# Altium footprint library PcbLib1.PcbLib: 22 footprints (part 1 of 2)
Each footprint in its own frame and in the unit in brackets; x right, y up, seen from the top. Pads: shape width x height; smd on the part's side, far side on the other; paste and mask are expansions set on the pad; w line width, h text height; cw(c..) or ccw(c..) is an arc to the next point about the centre after c.
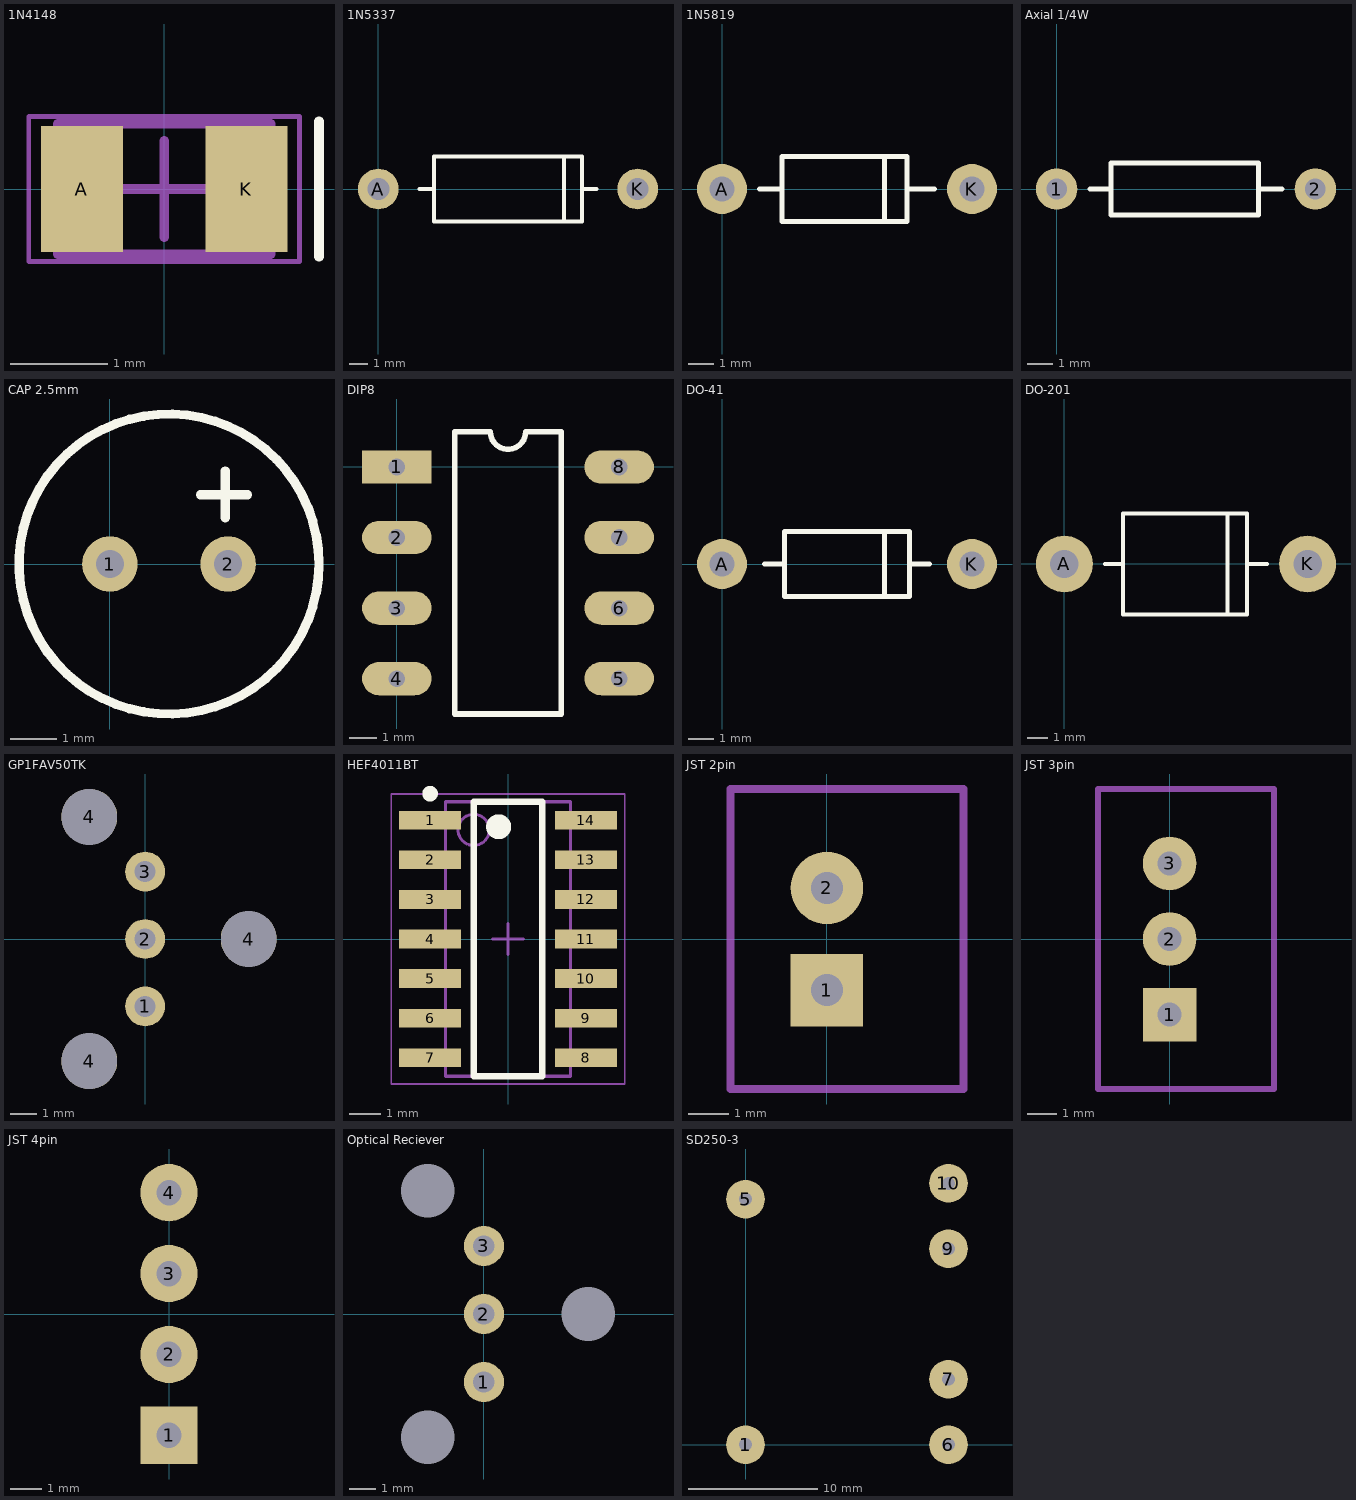
[diagram p0: the footprints below, top view; thin cyan lines are the x and y axes]

## 1N4148 [mm]
pads (2):
  rect 0.85x1.3 smd: A(-0.85,0) K(0.85,0)
Top Overlay:
  lines w0.1: 1.6,-0.7 1.6,0.7
Mechanical 13:
  lines w0.1: -1.1,-0.675 -1.1,0.675 1.1,0.675 1.1,-0.675 -1.1,-0.675
Mechanical 15:
  lines w0.05: -1.4,-0.75 -1.4,0.75 1.4,0.75 1.4,-0.75 -1.4,-0.75
  lines w0.1: -0.5,0 0.5,0 ; 0,-0.5 0,0.5
3D body: height 0.7, standoff 0, extent -1.1,-0.675 -0.68,0.675
3D body: height 0.7, standoff 0, extent -0.68,-0.675 0.68,0.675
3D body: height 0.7, standoff 0, extent 0.68,-0.675 1.1,0.675

## 1N5337 [mm]
pads (2):
  round 2.2 hole 1.2: A(0,0) K(14,0)
Top Overlay:
  lines w0.2: 2.2,0 3,0 ; 10.025,-1.75 10.025,1.65 ; 11,0 11.8,0 ; 3,0 3,-1.75 11,-1.75 11,1.75 3,1.75 3,0

## 1N5819 [mm]
pads (2):
  round 2 hole 1: A(0,0) K(10,0)
Top Overlay:
  lines w0.2: 1.5,0 2.4,0 ; 6.492,-1.3 6.492,1.3 ; 7.4,0 8.5,0 ; 2.4,-1.3 2.4,1.3 4.175,1.3 7.4,1.3 7.4,-1.3 2.4,-1.3
3D body: height 2.72, standoff -2.6, extent -0.512,-1.36 10.512,1.36

## Axial 1/4W [mm]
pads (2):
  round 1.6 hole 0.8: 1(0,0) 2(10,0)
Top Overlay:
  lines w0.2: 1.3,0 2.1,0 ; 7.8,0 8.7,0 ; 2.1,0 2.1,-1 7.8,-1 7.8,1 2.1,1 2.1,0

## CAP 2.5mm [mm]
pads (2):
  round 1.2 hole 0.6: 1(0,0) 2(2.56,0)
Top Overlay:
  circle w0.2: c1.28,0 r3.25
  lines w0.2: 1.962,1.5 2.978,1.5 ; 2.5,1 2.5,2.016

## DIP8 [mm]
pads (8):
  rect 2.5x1.2 hole 0.6: 1(0,0)
  oval 2.5x1.2 hole 0.6: 2(0,-2.54) 3(0,-5.08) 4(0,-7.62) 5(8,-7.62) 6(8,-5.08) 7(8,-2.54) 8(8,0)
Top Overlay:
  lines w0.2: 2.085,-8.89 5.915,-8.89 5.915,1.27 4.635,1.27 cw(c4,1.27) 3.365,1.27 2.085,1.27 2.085,-8.89

## DO-41 [mm]
pads (2):
  round 2 hole 1: A(0,0) K(10,0)
Top Overlay:
  lines w0.2: 1.7,0 2.5,0 ; 6.492,-1.3 6.492,1.3 ; 7.5,0 8.3,0 ; 2.5,0 2.5,-1.3 7.5,-1.3 7.5,1.3 2.875,1.3 2.5,1.3 2.5,0

## DO-201 [mm]
pads (2):
  round 2.8 hole 1.4: A(0,0) K(12,0)
Top Overlay:
  lines w0.2: 2,0 2.9,0 ; 8.058,-2.5 8.058,2.5 ; 9,0 10,0 ; 2.9,0 2.9,2.5 9,2.5 9,-2.5 2.9,-2.5 2.9,0

## GP1FAV50TK [mm] "TOSLINK Transmitter 660nm"
height 19
pads (6):
  round 1.5 hole 0.8: 1(0,-2.54) 2(0,0) 3(0,2.54)
  round 2.1 hole 2.1: 4(-2.1,-4.6) 4(-2.1,4.6) 4(3.9,0)
3D body: height 19.02, standoff -3.75, extent -3.6,-6 10.4,6

## HEF4011BT [mm] "NAND gate"
height 1.75
pads (14):
  rect 2x0.6 smd: 1(-2.5,3.81) 2(-2.5,2.54) 3(-2.5,1.27) 4(-2.5,0) 5(-2.5,-1.27) 6(-2.5,-2.54) 7(-2.5,-3.81) 8(2.5,-3.81) 9(2.5,-2.54) 10(2.5,-1.27) 11(2.5,0) 12(2.5,1.27) 13(2.5,2.54) 14(2.5,3.81)
Top Overlay:
  circle w0.25: c-2.5,4.66 r0.125
  circle w0.4: c-0.3,3.6 r0.2
  lines w0.2: -1.1,-4.4 -1.1,4.4 1.1,4.4 1.1,-4.4 -1.1,-4.4
Mechanical 13:
  circle w0.1: c-1.1,3.5 r0.5
  lines w0.1: -2,-4.4 -2,4.4 2,4.4 2,-4.4 -2,-4.4
Mechanical 15:
  lines w0.05: -3.75,-4.65 -3.75,4.65 3.75,4.65 3.75,-4.65 -3.75,-4.65
  lines w0.1: -0.5,0 0.5,0 ; 0,-0.5 0,0.5
3D body: height 1.75, standoff 0, extent -3,-4.375 3,4.375

## JST 2pin [mm]
pads (2):
  rect 1.8x1.8 hole 0.8: 1(0,-1.27)
  round 1.8 hole 0.8: 2(0,1.27)
Mechanical 15:
  lines w0.2: -2.4,-3.73 -2.4,3.73 3.4,3.73 3.4,-3.73 -2.4,-3.73
3D body: height 7, standoff -3.4, extent -2.4,-3.7 3.35,3.7

## JST 3pin [mm]
pads (3):
  rect 1.8x1.8 hole 0.8: 1(0,-2.54)
  round 1.8 hole 0.8: 2(0,0) 3(0,2.54)
Mechanical 15:
  lines w0.2: -2.4,-5.04 -2.4,5.04 3.5,5.04 3.5,-5.04 -2.4,-5.04
3D body: height 7, standoff -3.4, extent -2.35,-4.95 3.4,4.95

## JST 4pin [mm]
pads (4):
  rect 1.8x1.8 hole 0.8: 1(0,-3.81)
  round 1.8 hole 0.8: 2(0,-1.27) 3(0,1.27) 4(0,3.81)
3D body: height 7, standoff -3.4, extent -2.35,-6.2 3.4,6.2

## Omega Verksted [mm] "OV-logo"

## Optical Reciever [mm]
pads (6):
  round 1.5 hole 0.8: 1(0,-2.54) 2(0,0) 3(0,2.54)
  round 0 hole 2: 3(3.9,0) 4(-2.1,-4.6) 5(-2.1,4.6)

## SD250-3 [mm]
pads (6):
  round 3 hole 1: 1(0,0) 5(0,19.05) 6(15.75,0) 7(15.75,5.08) 9(15.75,15.2) 10(15.75,20.28)
3D body: height 30, standoff 1, extent -2,-2.5 18,22.5